# EAGLE library part IC_MC34063AP (library SMD-Components_E950)
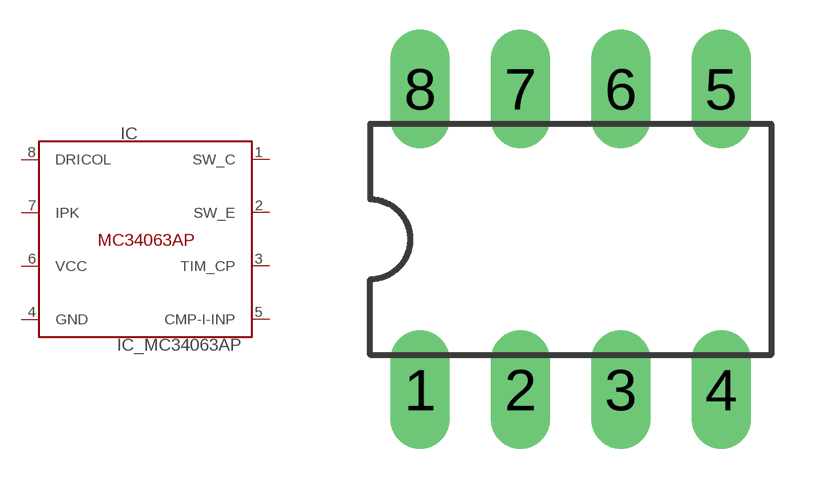
[diagram p8: symbol with the pads of DIP-8_PIN; footprint DIP-8_PIN]

Designator prefix IC

## IC_MC34063APDIP  [DIP-8_PIN]
1  SW_C  pwr
2  SW_E  in
3  TIM_CP  out
4  GND  pwr
5  CMP-I-INP  in
6  VCC  in
7  IPK  in
8  DRICOL  in

## Footprint DIP-8_PIN (pad centres in mm)
Dual In Line Package
drill 1 pad 1.27 long: 1 -3.81,-3.81; 2 -1.27,-3.81; 3 1.27,-3.81; 4 3.81,-3.81; 5 3.81,3.81; 6 1.27,3.81; 7 -1.27,3.81; 8 -3.81,3.81